# EAGLE library part MAX485 (library serial_interfaces)
IC TXRX RS485/RS422 ESD 8NSOIC
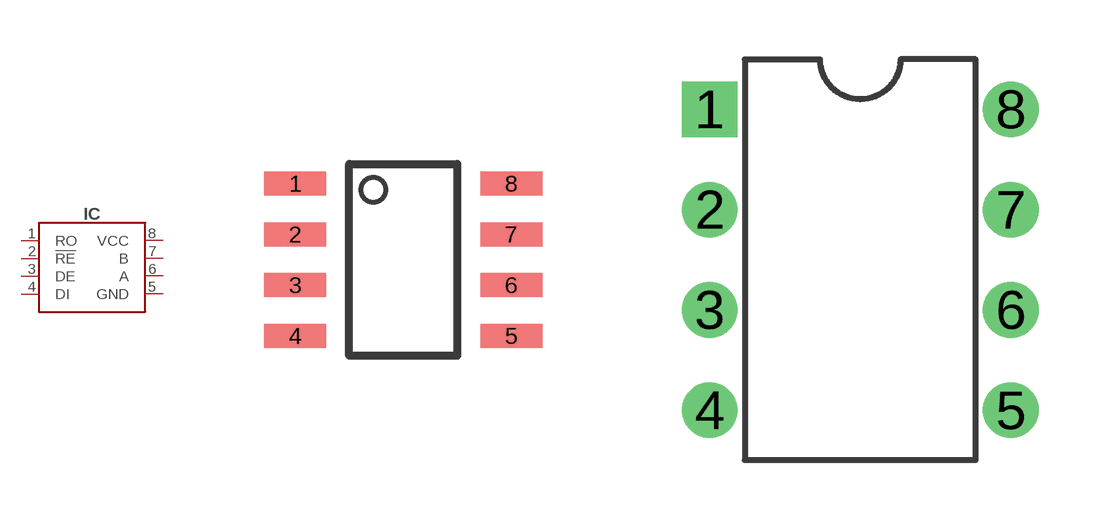
[diagram p27: symbol with the pads of SOIC8-3.9; footprints SOIC8-3.9, DIL08]

Designator prefix IC

## MAX485-SOIC8 (DIGIKEY#: MAX485CSA+TCT-ND; MANF: Maxim Integrated; MANF#: MAX485CSA+T)  [SOIC8-3.9]
1  RO  out
2  !RE  in
3  DE  in
4  DI  in
5  GND  pwr
6  A
7  B
8  VCC  pwr

## MAX485-DIL8 (DIGIKEY#: MAX485CPA+-ND; MANF: Maxim Integrated; MANF#: MAX485CPA+)  [DIL08]
Pads as for SOIC8-3.9

## Footprint SOIC8-3.9 (pad centres in mm)
https://www.ti.com/lit/ds/snvsaq5a/snvsaq5a.pdf?ts=1602424164509
smd 1.55 x 0.6: 1 -2.7,1.905; 2 -2.7,0.635; 3 -2.7,-0.635; 4 -2.7,-1.905; 5 2.7,-1.905; 6 2.7,-0.635; 7 2.7,0.635; 8 2.7,1.905

## Footprint DIL08 (pad centres in mm)
Dual In Line Package
drill 0.9 square: 1 -3.81,3.81
drill 0.9: 2 -3.81,1.27; 3 -3.81,-1.27; 4 -3.81,-3.81; 5 3.81,-3.81; 6 3.81,-1.27; 7 3.81,1.27; 8 3.81,3.81